# Altium integrated library Free Documents.IntLib: 5 symbols
Pins are listed as number, name and electrical type; pins without a type are passive.

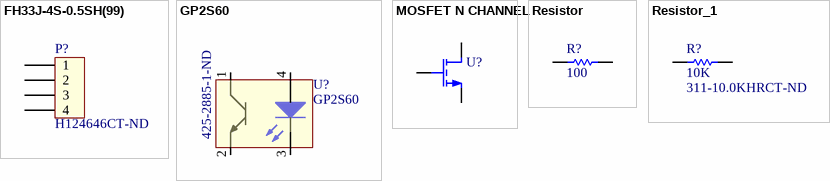
[diagram p0: symbols FH33J-4S-0.5SH(99) to Resistor_1]

## FH33J-4S-0.5SH(99)
designator P?  Supplier Part Number 1: H124646CT-ND  (hidden comment: FH33J-4S-0.5SH(99))
0.5mm FPC connector; Manufacturer: Hirose Electric Co Ltd; Flat Flex Type: FFC, FPC; Connector/Contact Type: Contacts, Bottom; Number of Positions: 4; Pitch: 0.020" (0.50mm); FFC, FCB Thickness: 0.30mm; Locking Feature: Flip Lock; Cable End Type: Tapered; Actuator Material: Polyphenylene Sulfide (PPS); Voltage Rating: 50V; Material Flammability Rating: UL94 V-0; Current Rating: 0.5A; digikey part number: H124646CT-ND; Supplier 1: Digi-Key; Manufacturer Part Number: FH33J-4S-0.5SH(99); RoHS: RoHS Compliant; Category: Connectors, Interconnects; Stock 1: 1775; Pricing 1: 1=2.05, 10=1.86, 25=1.7456, 50=1.6698, 100=1.5939, 250=1.44212 (USD); Packaging: Cut Tape (CT); Part Status: Active; Mounting Type: Surface Mount, Right Angle; Termination: Solder; Height Above Board: 0.047" (1.20mm); Contact Material: Phosphor Bronze; Contact Finish: Gold; Housing Material: Liquid Crystal Polymer (LCP), Halogen Free; Features: Zero Insertion Force (ZIF); Operating Temperature: -55°C ~ 85°C; ComponentLink1URL: https://www.hirose.com/product/en/download_file/key_name/FH33/category/Catalog/doc_file_id/49357/?file_category_id=4&item_id=304&is_series=1; ComponentLink1Description: https://www.hirose.com/product/en/download_file/key_name/FH33/category/Catalog/doc_file_id/49357/?file_category_id=4&item_id=304&is_series=1
footprint FH33J-4S-0.5SH(99)
pins: 1, 2, 3, 4

## GP2S60
designator U?  Supplier Part Number 1: 425-2885-1-ND
digikey part number: 425-2885-1-ND; Supplier 1: Digi-Key
footprint GP2S60
pins: 1, 2, 3, 4

## MOSFET N CHANNEL
designator U?  (value not drawn)
digikey part number: 568-5987-1-ND; Supplier 1: Digi-Key; Supplier Part Number 1: 568-5987-1-ND
footprint SOT323 (Smaller package for SOT23)
pins: 1 G, 2 S, 3 D

## Resistor
designator R?, comment 100
digikey number: RMCF0603FT10K0CT-ND; Supplier 1: Digi-Key; Supplier Part Number 1: 311-100HRCT-ND
footprint RES_1206_SMD
footprint 0603W
footprint 0402W
pins: 1, 2

## Resistor_1
designator R?, comment 10K  Supplier Part Number 1: 311-10.0KHRCT-ND
digikey number: RMCF0603FT10K0CT-ND; Supplier 1: Digi-Key
footprint RES_1206_SMD
footprint 0603W
footprint 0402W
pins: 1, 2